# Altium schematic symbol library ADP5589.SchLib: 1 symbol
Pins are listed as number, name and electrical type; pins without a type are passive.

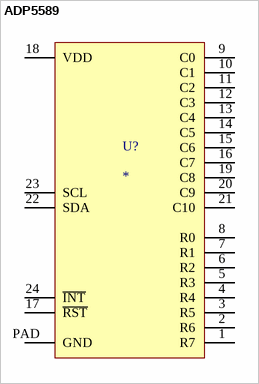
[diagram p0: symbol ADP5589]

## ADP5589
designator U?
pins: 1 R7, 2 R6, 3 R5, 4 R4, 5 R3, 6 R2, 7 R1, 8 R0, 9 C0, 10 C1, 11 C2, 12 C3, 13 C4, 14 C5, 15 C6, 16 C7, 17 ~{RST}, 18 VDD, 19 C8, 20 C9, 21 C10, 22 SDA, 23 SCL, 24 ~{INT}, PAD GND